# EAGLE library part XDET (library my_mixed)
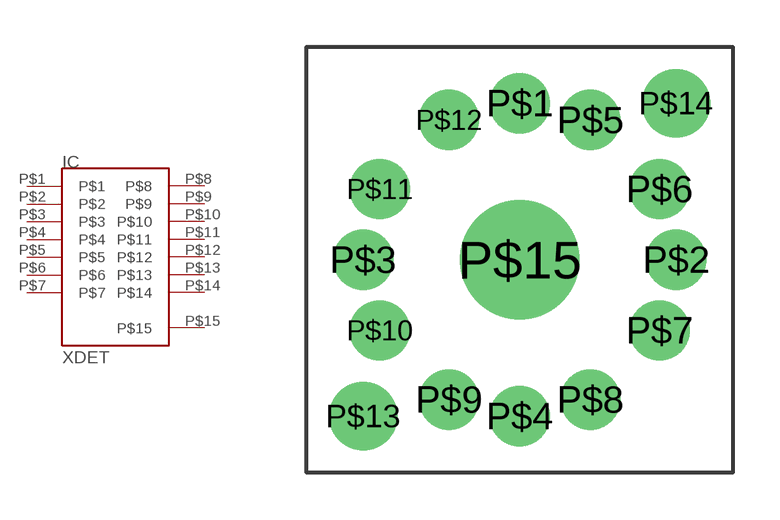
[diagram p12: symbol with the pads of DET12; footprint DET12]

Designator prefix IC

## XDET  [DET12]
P$1  P$1
P$2  P$2
P$3  P$3
P$4  P$4
P$5  P$5
P$6  P$6
P$7  P$7
P$8  P$8
P$9  P$9
P$10  P$10
P$11  P$11
P$12  P$12
P$13  P$13
P$14  P$14
P$15  P$15

## Footprint DET12 (pad centres in mm)
Quantronics X-Ray Detector Socket
drill 0.61 pad 1.93: P$1 0,5.004; P$2 5.004,0; P$3 -5.004,0; P$4 0,-5.004; P$5 2.261,4.47; P$6 4.47,2.261; P$7 4.47,-2.261; P$8 2.261,-4.47; P$9 -2.261,-4.47; P$10 -4.47,-2.261; P$11 -4.47,2.261; P$12 -2.261,4.47
drill 0.61 pad 2.184: P$13 -5.004,-5.004; P$14 5.004,5.004
drill 1.93 pad 3.81: P$15 0,0